# EAGLE library part KSZ8081RNACA-TR (library mbed-HDK-IC)
Ethernet PHY Transceiver 10 Base T/100 Base TX
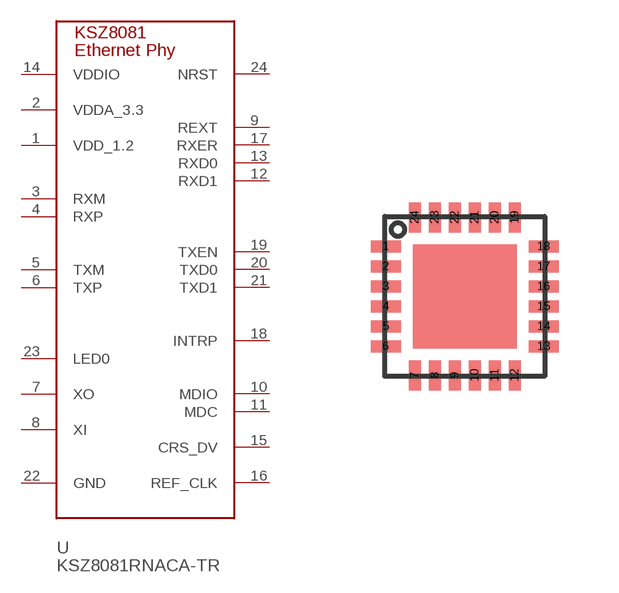
[diagram p3: symbol with the pads of QFN-24; footprint QFN-24]

Designator prefix U

## KSZ8081RNACA-TR (MF: Microchip Technologies; MFN: KSZ8081RNACA-TR; OC-DIGIKEY: 576-4173-1-ND; OC-MOUSER: 998-KSZ8081RNACATR; OC-NEWARK: 72Y5306)  [QFN-24]
1  VDD_1.2
2  VDDA_3.3
3  RXM
4  RXP
5  TXM
6  TXP
7  XO
8  XI
9  REXT
10  MDIO
11  MDC
12  RXD1
13  RXD0
14  VDDIO
15  CRS_DV
16  REF_CLK
17  RXER
18  INTRP
19  TXEN
20  TXD0
21  TXD1
22  GND
23  LED0
24  NRST

## Footprint QFN-24 (pad centres in mm)
smd 0.75 x 0.3: 1 -1.975,1.25; 2 -1.975,0.75; 3 -1.975,0.25; 4 -1.975,-0.25; 5 -1.975,-0.75; 6 -1.975,-1.25; 13 1.975,-1.25; 14 1.975,-0.75; 15 1.975,-0.25; 16 1.975,0.25; 17 1.975,0.75; 18 1.975,1.25
smd 0.3 x 0.75: 7 -1.25,-1.975; 8 -0.75,-1.975; 9 -0.25,-1.975; 10 0.25,-1.975; 11 0.75,-1.975; 12 1.25,-1.975; 19 1.25,1.975; 20 0.75,1.975; 21 0.25,1.975; 22 -0.25,1.975; 23 -0.75,1.975; 24 -1.25,1.975